# Altium schematic symbol library E2S_E2S_031_V1.SchLib: 1 symbol
Pins are listed as number, name and electrical type; pins without a type are passive.

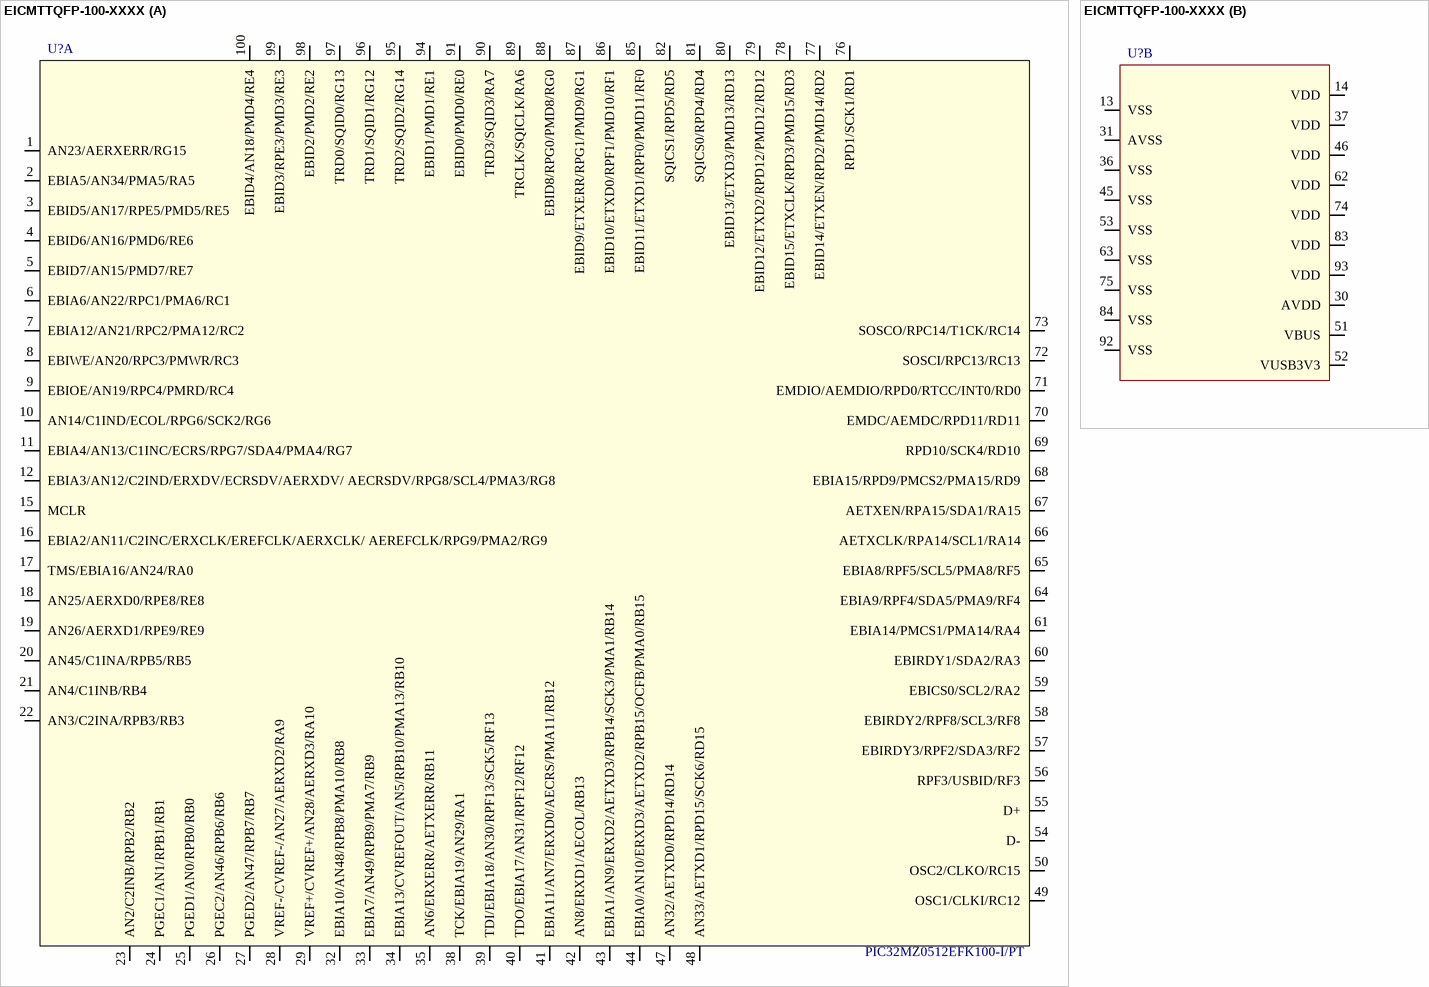
[diagram p0: symbol EICMTTQFP-100-XXXX]

## EICMTTQFP-100-XXXX
designator U?, comment value PIC32MZ0512EFK100-I/PT  (hidden comment: IC MCU 32BIT 512KB FLASH 100TQFP)
Manufacturer: Microchip Technology; Internal Part Number: EICMTTQFP-100-XXXX; Vendor Part Number: PIC32MZ0512EFK100-I/PT-ND; Component Height (mm): 1.2mm; 3rd Auxiliary Field: RoHS Compliant; 1st Auxiliary Field: 2.1V ~ 3.6V; 2nd Auxiliary Field: 200MHz; Temp Co: -40°C ~ 85°C (TA); Vendor Name: Digi-Key; Part Type: IC MCU 32BIT 512KB FLASH 100TQFP; Manufacturer Part Number: PIC32MZ0512EFK100-I/PT; 4th Auxiliary Field: *
footprint TSQFP40P1400X1400X120-100N (TSQFP, 100-Leads, Body 12.00x12.00mm, Pitch 0.40mm, IPC Medium Density)
part A pins: 1 AN23/AERXERR/RG15, 2 EBIA5/AN34/PMA5/RA5, 3 EBID5/AN17/RPE5/PMD5/RE5, 4 EBID6/AN16/PMD6/RE6, 5 EBID7/AN15/PMD7/RE7, 6 EBIA6/AN22/RPC1/PMA6/RC1, 7 EBIA12/AN21/RPC2/PMA12/RC2, 8 EBIWE/AN20/RPC3/PMWR/RC3, 9 EBIOE/AN19/RPC4/PMRD/RC4, 10 AN14/C1IND/ECOL/RPG6/SCK2/RG6, 11 EBIA4/AN13/C1INC/ECRS/RPG7/SDA4/PMA4/RG7, 12 EBIA3/AN12/C2IND/ERXDV/ECRSDV/AERXDV/ AECRSDV/RPG8/SCL4/PMA3/RG8, 15 MCLR, 16 EBIA2/AN11/C2INC/ERXCLK/EREFCLK/AERXCLK/ AEREFCLK/RPG9/PMA2/RG9, 17 TMS/EBIA16/AN24/RA0, 18 AN25/AERXD0/RPE8/RE8, 19 AN26/AERXD1/RPE9/RE9, 20 AN45/C1INA/RPB5/RB5, 21 AN4/C1INB/RB4, 22 AN3/C2INA/RPB3/RB3, 23 AN2/C2INB/RPB2/RB2, 24 PGEC1/AN1/RPB1/RB1, 25 PGED1/AN0/RPB0/RB0, 26 PGEC2/AN46/RPB6/RB6, 27 PGED2/AN47/RPB7/RB7, 28 VREF-/CVREF-/AN27/AERXD2/RA9, 29 VREF+/CVREF+/AN28/AERXD3/RA10, 32 EBIA10/AN48/RPB8/PMA10/RB8, 33 EBIA7/AN49/RPB9/PMA7/RB9, 34 EBIA13/CVREFOUT/AN5/RPB10/PMA13/RB10, 35 AN6/ERXERR/AETXERR/RB11, 38 TCK/EBIA19/AN29/RA1, 39 TDI/EBIA18/AN30/RPF13/SCK5/RF13, 40 TDO/EBIA17/AN31/RPF12/RF12, 41 EBIA11/AN7/ERXD0/AECRS/PMA11/RB12, 42 AN8/ERXD1/AECOL/RB13, 43 EBIA1/AN9/ERXD2/AETXD3/RPB14/SCK3/PMA1/RB14, 44 EBIA0/AN10/ERXD3/AETXD2/RPB15/OCFB/PMA0/RB15, 47 AN32/AETXD0/RPD14/RD14, 48 AN33/AETXD1/RPD15/SCK6/RD15, 49 OSC1/CLKI/RC12, 50 OSC2/CLKO/RC15, 54 D-, 55 D+, 56 RPF3/USBID/RF3, 57 EBIRDY3/RPF2/SDA3/RF2, 58 EBIRDY2/RPF8/SCL3/RF8, 59 EBICS0/SCL2/RA2, 60 EBIRDY1/SDA2/RA3, 61 EBIA14/PMCS1/PMA14/RA4, 64 EBIA9/RPF4/SDA5/PMA9/RF4, 65 EBIA8/RPF5/SCL5/PMA8/RF5, 66 AETXCLK/RPA14/SCL1/RA14, 67 AETXEN/RPA15/SDA1/RA15, 68 EBIA15/RPD9/PMCS2/PMA15/RD9, 69 RPD10/SCK4/RD10, 70 EMDC/AEMDC/RPD11/RD11, 71 EMDIO/AEMDIO/RPD0/RTCC/INT0/RD0, 72 SOSCI/RPC13/RC13, 73 SOSCO/RPC14/T1CK/RC14, 76 RPD1/SCK1/RD1, 77 EBID14/ETXEN/RPD2/PMD14/RD2, 78 EBID15/ETXCLK/RPD3/PMD15/RD3, 79 EBID12/ETXD2/RPD12/PMD12/RD12, 80 EBID13/ETXD3/PMD13/RD13, 81 SQICS0/RPD4/RD4, 82 SQICS1/RPD5/RD5, 85 EBID11/ETXD1/RPF0/PMD11/RF0, 86 EBID10/ETXD0/RPF1/PMD10/RF1, 87 EBID9/ETXERR/RPG1/PMD9/RG1, 88 EBID8/RPG0/PMD8/RG0, 89 TRCLK/SQICLK/RA6, 90 TRD3/SQID3/RA7, 91 EBID0/PMD0/RE0, 94 EBID1/PMD1/RE1, 95 TRD2/SQID2/RG14, 96 TRD1/SQID1/RG12, 97 TRD0/SQID0/RG13, 98 EBID2/PMD2/RE2, 99 EBID3/RPE3/PMD3/RE3, 100 EBID4/AN18/PMD4/RE4
part B pins: 13 VSS, 14 VDD, 30 AVDD, 31 AVSS, 36 VSS, 37 VDD, 45 VSS, 46 VDD, 51 VBUS, 52 VUSB3V3, 53 VSS, 62 VDD, 63 VSS, 74 VDD, 75 VSS, 83 VDD, 84 VSS, 92 VSS, 93 VDD